# EAGLE library part CY8CMBR3106S (library ICs)
Capacitive Touch Sensor, I2C, 1.71 V, 5.5 V, QFN, 24, -40 °C
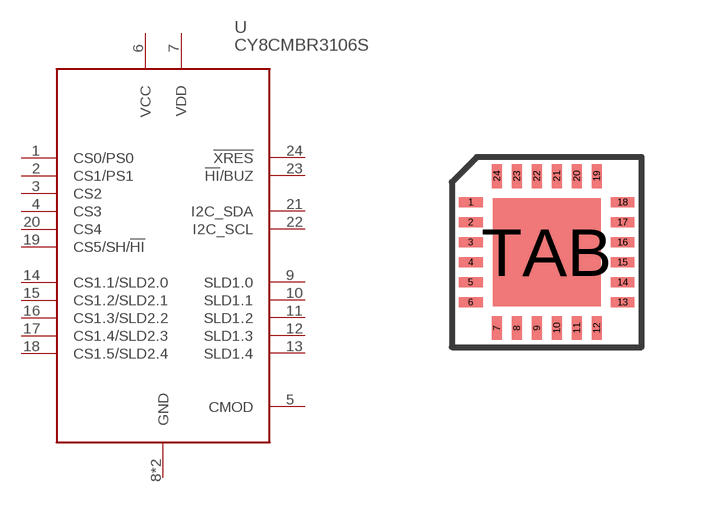
[diagram p88: symbol with the pads of QFN24; footprint QFN24]

Designator prefix U

## CY8CMBR3106S-LQXI (FARNELL: 2421299; PRICE_PER: 1.2054; VALUE: CY8CMBR3106S)  [QFN24]
1  CS0/PS0
2  CS1/PS1
3  CS2
4  CS3
5  CMOD
6  VCC
7  VDD
8  GND
9  SLD1.0
10  SLD1.1
11  SLD1.2
12  SLD1.3
13  SLD1.4
14  CS1.1/SLD2.0
15  CS1.2/SLD2.1
16  CS1.3/SLD2.2
17  CS1.4/SLD2.3
18  CS1.5/SLD2.4
19  CS5/SH/!HI
20  CS4
21  I2C_SDA
22  I2C_SCL
23  !HI!/BUZ
24  !XRES
TAB  GND

## Footprint QFN24 (pad centres in mm)
smd 0.6 x 0.25: 1 -1.9,1.25; 2 -1.9,0.75; 3 -1.9,0.25; 4 -1.9,-0.25; 5 -1.9,-0.75; 6 -1.9,-1.25; 13 1.9,-1.25; 14 1.9,-0.75; 15 1.9,-0.25; 16 1.9,0.25; 17 1.9,0.75; 18 1.9,1.25
smd 0.25 x 0.6: 7 -1.25,-1.9; 8 -0.75,-1.9; 9 -0.25,-1.9; 10 0.25,-1.9; 11 0.75,-1.9; 12 1.25,-1.9; 19 1.25,1.9; 20 0.75,1.9; 21 0.25,1.9; 22 -0.25,1.9; 23 -0.75,1.9; 24 -1.25,1.9
smd 2.7 x 2.7: TAB 0,0